# Altium integrated library TMS570LC4357.IntLib: 1 symbol
Pins are listed as number, name and electrical type; pins without a type are passive.

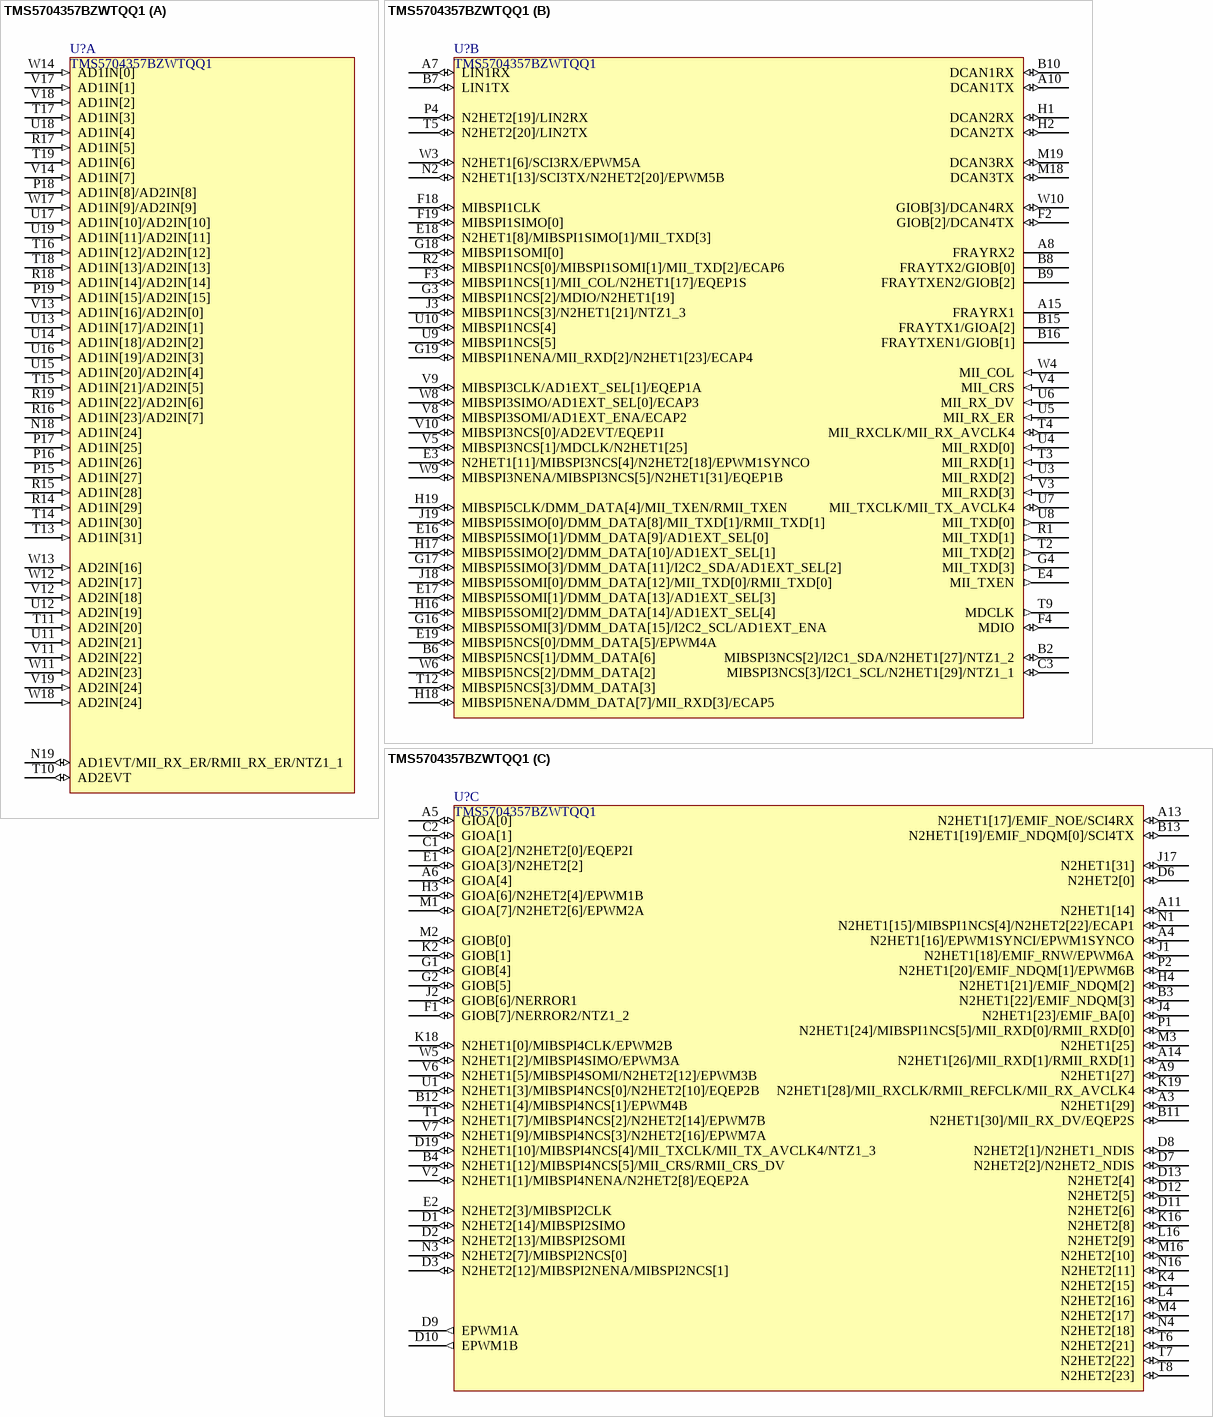
[diagram p0: symbol TMS5704357BZWTQQ1]

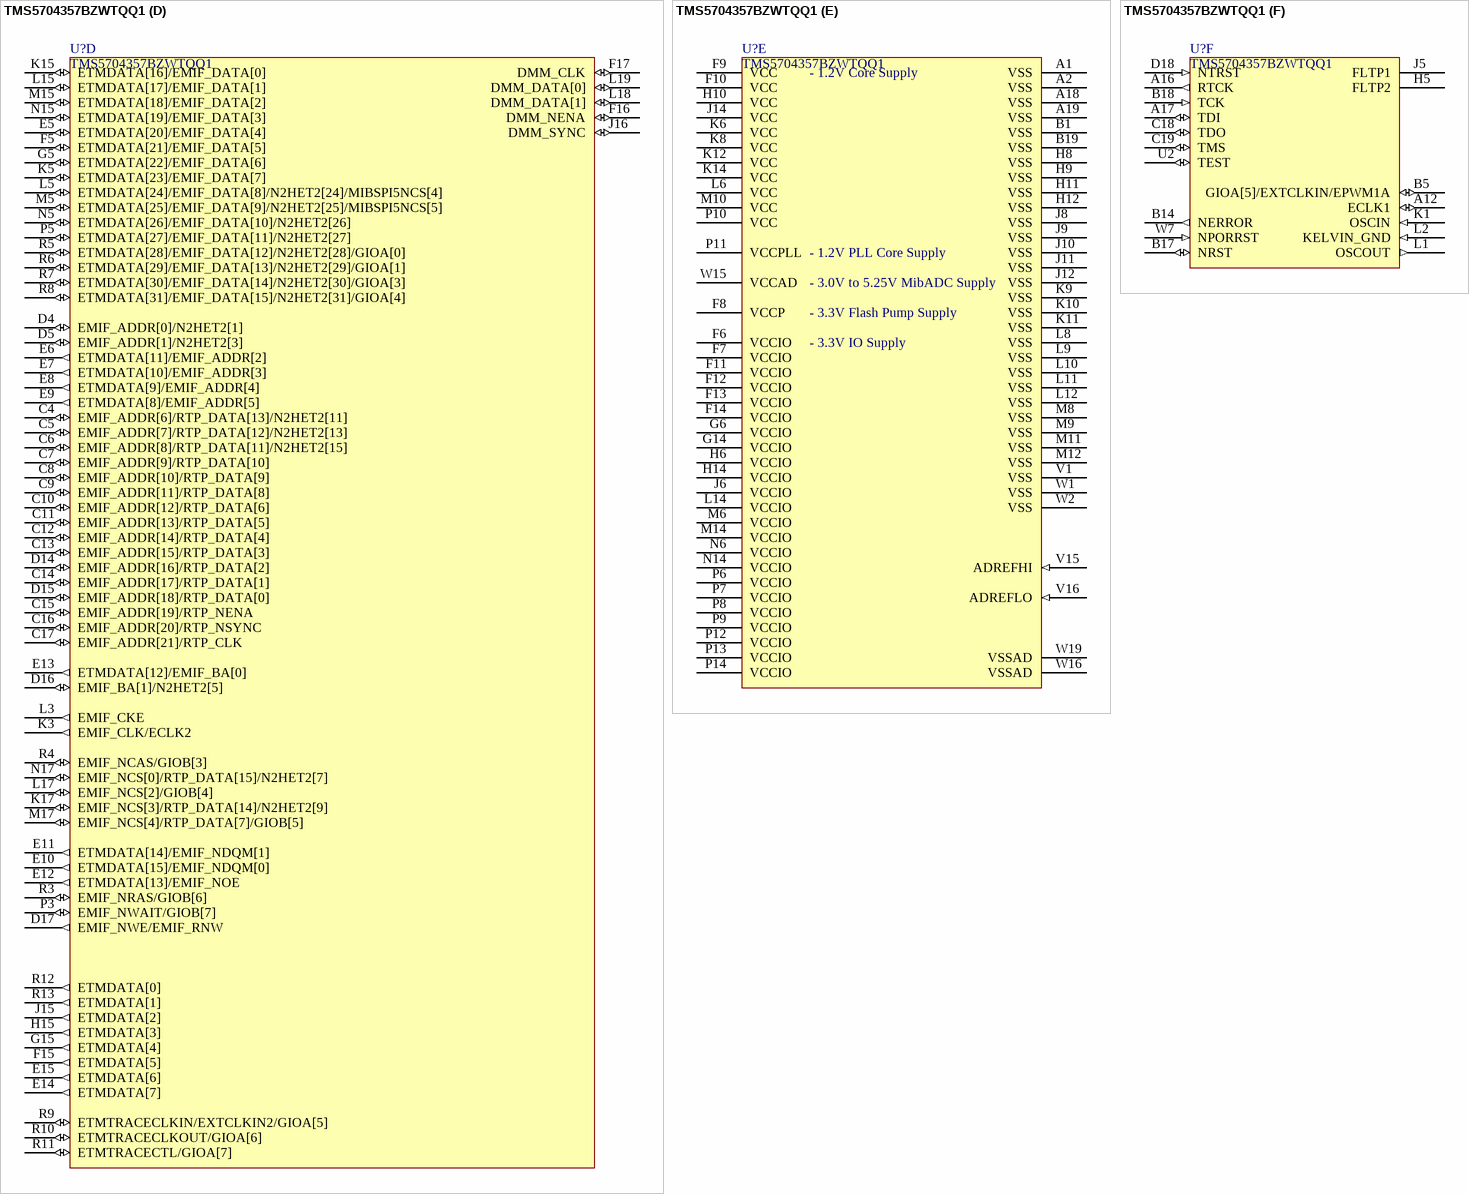
[diagram p1: symbol TMS5704357BZWTQQ1]

## TMS5704357BZWTQQ1
designator U?
footprint BGA337C80P19X19_1600X1600X140 (BGA, 337-Leads, Body 16,00x16,00mmx1,40mm, Pitch 0,80mm)
part A pins: N18 AD1IN[24] (in), N19 AD1EVT/MII_RX_ER/RMII_RX_ER/NTZ1_1 (io), P15 AD1IN[27] (in), P16 AD1IN[26] (in), P17 AD1IN[25] (in), P18 AD1IN[8]/AD2IN[8] (in), P19 AD1IN[15]/AD2IN[15] (in), R14 AD1IN[29] (in), R15 AD1IN[28] (in), R16 AD1IN[23]/AD2IN[7] (in), R17 AD1IN[5] (in), R18 AD1IN[14]/AD2IN[14] (in), R19 AD1IN[22]/AD2IN[6] (in), T10 AD2EVT (io), T11 AD2IN[20] (in), T13 AD1IN[31] (in), T14 AD1IN[30] (in), T15 AD1IN[21]/AD2IN[5] (in), T16 AD1IN[12]/AD2IN[12] (in), T17 AD1IN[3] (in), T18 AD1IN[13]/AD2IN[13] (in), T19 AD1IN[6] (in), U11 AD2IN[21] (in), U12 AD2IN[19] (in), U13 AD1IN[17]/AD2IN[1] (in), U14 AD1IN[18]/AD2IN[2] (in), U15 AD1IN[20]/AD2IN[4] (in), U16 AD1IN[19]/AD2IN[3] (in), U17 AD1IN[10]/AD2IN[10] (in), U18 AD1IN[4] (in), U19 AD1IN[11]/AD2IN[11] (in), V11 AD2IN[22] (in), V12 AD2IN[18] (in), V13 AD1IN[16]/AD2IN[0] (in), V14 AD1IN[7] (in), V17 AD1IN[1] (in), V18 AD1IN[2] (in), V19 AD2IN[24] (in), W11 AD2IN[23] (in), W12 AD2IN[17] (in), W13 AD2IN[16] (in), W14 AD1IN[0] (in), W17 AD1IN[9]/AD2IN[9] (in), W18 AD2IN[24] (in)
part B pins: A7 LIN1RX (io), A8 FRAYRX2, A10 DCAN1TX (io), A15 FRAYRX1, B2 MIBSPI3NCS[2]/I2C1_SDA/N2HET1[27]/NTZ1_2 (io), B6 MIBSPI5NCS[1]/DMM_DATA[6] (io), B7 LIN1TX (io), B8 FRAYTX2/GIOB[0], B9 FRAYTXEN2/GIOB[2], B10 DCAN1RX (io), B15 FRAYTX1/GIOA[2], B16 FRAYTXEN1/GIOB[1], C3 MIBSPI3NCS[3]/I2C1_SCL/N2HET1[29]/NTZ1_1 (io), E3 N2HET1[11]/MIBSPI3NCS[4]/N2HET2[18]/EPWM1SYNCO (io), E4 MII_TXEN (out), E16 MIBSPI5SIMO[1]/DMM_DATA[9]/AD1EXT_SEL[0] (io), E17 MIBSPI5SOMI[1]/DMM_DATA[13]/AD1EXT_SEL[3] (io), E18 N2HET1[8]/MIBSPI1SIMO[1]/MII_TXD[3] (io), E19 MIBSPI5NCS[0]/DMM_DATA[5]/EPWM4A (io), F2 GIOB[2]/DCAN4TX (io), F3 MIBSPI1NCS[1]/MII_COL/N2HET1[17]/EQEP1S (io), F4 MDIO (io), F18 MIBSPI1CLK (io), F19 MIBSPI1SIMO[0] (io), G3 MIBSPI1NCS[2]/MDIO/N2HET1[19] (io), G4 MII_TXD[3] (out), G16 MIBSPI5SOMI[3]/DMM_DATA[15]/I2C2_SCL/AD1EXT_ENA (io), G17 MIBSPI5SIMO[3]/DMM_DATA[11]/I2C2_SDA/AD1EXT_SEL[2] (io), G18 MIBSPI1SOMI[0] (io), G19 MIBSPI1NENA/MII_RXD[2]/N2HET1[23]/ECAP4 (io), H1 DCAN2RX (io), H2 DCAN2TX (io), H16 MIBSPI5SOMI[2]/DMM_DATA[14]/AD1EXT_SEL[4] (io), H17 MIBSPI5SIMO[2]/DMM_DATA[10]/AD1EXT_SEL[1] (io), H18 MIBSPI5NENA/DMM_DATA[7]/MII_RXD[3]/ECAP5 (io), H19 MIBSPI5CLK/DMM_DATA[4]/MII_TXEN/RMII_TXEN (io), J3 MIBSPI1NCS[3]/N2HET1[21]/NTZ1_3 (io), J18 MIBSPI5SOMI[0]/DMM_DATA[12]/MII_TXD[0]/RMII_TXD[0] (io), J19 MIBSPI5SIMO[0]/DMM_DATA[8]/MII_TXD[1]/RMII_TXD[1] (io), M18 DCAN3TX (io), M19 DCAN3RX (io), N2 N2HET1[13]/SCI3TX/N2HET2[20]/EPWM5B (io), P4 N2HET2[19]/LIN2RX (io), R1 MII_TXD[1] (out), R2 MIBSPI1NCS[0]/MIBSPI1SOMI[1]/MII_TXD[2]/ECAP6 (io), T2 MII_TXD[2] (out), T3 MII_RXD[1] (in), T4 MII_RXCLK/MII_RX_AVCLK4 (io), T5 N2HET2[20]/LIN2TX (io), T9 MDCLK (out), T12 MIBSPI5NCS[3]/DMM_DATA[3] (io), U3 MII_RXD[2] (in), U4 MII_RXD[0] (in), U5 MII_RX_ER (in), U6 MII_RX_DV (in), U7 MII_TXCLK/MII_TX_AVCLK4 (io), U8 MII_TXD[0] (out), U9 MIBSPI1NCS[5] (io), U10 MIBSPI1NCS[4] (io), V3 MII_RXD[3] (in), V4 MII_CRS (in), V5 MIBSPI3NCS[1]/MDCLK/N2HET1[25] (io), V8 MIBSPI3SOMI/AD1EXT_ENA/ECAP2 (io), V9 MIBSPI3CLK/AD1EXT_SEL[1]/EQEP1A (io), V10 MIBSPI3NCS[0]/AD2EVT/EQEP1I (io), W3 N2HET1[6]/SCI3RX/EPWM5A (io), W4 MII_COL (in), W6 MIBSPI5NCS[2]/DMM_DATA[2] (io), W8 MIBSPI3SIMO/AD1EXT_SEL[0]/ECAP3 (io), W9 MIBSPI3NENA/MIBSPI3NCS[5]/N2HET1[31]/EQEP1B (io), W10 GIOB[3]/DCAN4RX (io)
part C pins: A3 N2HET1[29] (io), A4 N2HET1[16]/EPWM1SYNCI/EPWM1SYNCO (io), A5 GIOA[0] (io), A6 GIOA[4] (io), A9 N2HET1[27] (io), A11 N2HET1[14] (io), A13 N2HET1[17]/EMIF_NOE/SCI4RX (io), A14 N2HET1[26]/MII_RXD[1]/RMII_RXD[1] (io), B3 N2HET1[22]/EMIF_NDQM[3] (io), B4 N2HET1[12]/MIBSPI4NCS[5]/MII_CRS/RMII_CRS_DV (io), B11 N2HET1[30]/MII_RX_DV/EQEP2S (io), B12 N2HET1[4]/MIBSPI4NCS[1]/EPWM4B (io), B13 N2HET1[19]/EMIF_NDQM[0]/SCI4TX (io), C1 GIOA[2]/N2HET2[0]/EQEP2I (io), C2 GIOA[1] (io), D1 N2HET2[14]/MIBSPI2SIMO (io), D2 N2HET2[13]/MIBSPI2SOMI (io), D3 N2HET2[12]/MIBSPI2NENA/MIBSPI2NCS[1] (io), D6 N2HET2[0] (io), D7 N2HET2[2]/N2HET2_NDIS (io), D8 N2HET2[1]/N2HET1_NDIS (io), D9 EPWM1A (out), D10 EPWM1B (out), D11 N2HET2[6] (io), D12 N2HET2[5] (io), D13 N2HET2[4] (io), D19 N2HET1[10]/MIBSPI4NCS[4]/MII_TXCLK/MII_TX_AVCLK4/NTZ1_3 (io), E1 GIOA[3]/N2HET2[2] (io), E2 N2HET2[3]/MIBSPI2CLK (io), F1 GIOB[7]/NERROR2/NTZ1_2 (io), G1 GIOB[4] (io), G2 GIOB[5] (io), H3 GIOA[6]/N2HET2[4]/EPWM1B (io), H4 N2HET1[21]/EMIF_NDQM[2] (io), J1 N2HET1[18]/EMIF_RNW/EPWM6A (io), J2 GIOB[6]/NERROR1 (io), J4 N2HET1[23]/EMIF_BA[0] (io), J17 N2HET1[31] (io), K2 GIOB[1] (io), K4 N2HET2[15] (io), K16 N2HET2[8] (io), K18 N2HET1[0]/MIBSPI4CLK/EPWM2B (io), K19 N2HET1[28]/MII_RXCLK/RMII_REFCLK/MII_RX_AVCLK4 (io), L4 N2HET2[16] (io), L16 N2HET2[9] (io), M1 GIOA[7]/N2HET2[6]/EPWM2A (io), M2 GIOB[0] (io), M3 N2HET1[25] (io), M4 N2HET2[17] (io), M16 N2HET2[10] (io), N1 N2HET1[15]/MIBSPI1NCS[4]/N2HET2[22]/ECAP1 (io), N3 N2HET2[7]/MIBSPI2NCS[0] (io), N4 N2HET2[18] (io), N16 N2HET2[11] (io), P1 N2HET1[24]/MIBSPI1NCS[5]/MII_RXD[0]/RMII_RXD[0] (io), P2 N2HET1[20]/EMIF_NDQM[1]/EPWM6B (io), T1 N2HET1[7]/MIBSPI4NCS[2]/N2HET2[14]/EPWM7B (io), T6 N2HET2[21] (io), T7 N2HET2[22] (io), T8 N2HET2[23] (io), U1 N2HET1[3]/MIBSPI4NCS[0]/N2HET2[10]/EQEP2B (io), V2 N2HET1[1]/MIBSPI4NENA/N2HET2[8]/EQEP2A (io), V6 N2HET1[5]/MIBSPI4SOMI/N2HET2[12]/EPWM3B (io), V7 N2HET1[9]/MIBSPI4NCS[3]/N2HET2[16]/EPWM7A (io), W5 N2HET1[2]/MIBSPI4SIMO/EPWM3A (io)
part D pins: C4 EMIF_ADDR[6]/RTP_DATA[13]/N2HET2[11] (io), C5 EMIF_ADDR[7]/RTP_DATA[12]/N2HET2[13] (io), C6 EMIF_ADDR[8]/RTP_DATA[11]/N2HET2[15] (io), C7 EMIF_ADDR[9]/RTP_DATA[10] (io), C8 EMIF_ADDR[10]/RTP_DATA[9] (io), C9 EMIF_ADDR[11]/RTP_DATA[8] (io), C10 EMIF_ADDR[12]/RTP_DATA[6] (io), C11 EMIF_ADDR[13]/RTP_DATA[5] (io), C12 EMIF_ADDR[14]/RTP_DATA[4] (io), C13 EMIF_ADDR[15]/RTP_DATA[3] (io), C14 EMIF_ADDR[17]/RTP_DATA[1] (io), C15 EMIF_ADDR[19]/RTP_NENA (io), C16 EMIF_ADDR[20]/RTP_NSYNC (io), C17 EMIF_ADDR[21]/RTP_CLK (io), D4 EMIF_ADDR[0]/N2HET2[1] (io), D5 EMIF_ADDR[1]/N2HET2[3] (io), D14 EMIF_ADDR[16]/RTP_DATA[2] (io), D15 EMIF_ADDR[18]/RTP_DATA[0] (io), D16 EMIF_BA[1]/N2HET2[5] (io), D17 EMIF_NWE/EMIF_RNW (out), E5 ETMDATA[20]/EMIF_DATA[4] (io), E6 ETMDATA[11]/EMIF_ADDR[2] (out), E7 ETMDATA[10]/EMIF_ADDR[3] (out), E8 ETMDATA[9]/EMIF_ADDR[4] (out), E9 ETMDATA[8]/EMIF_ADDR[5] (out), E10 ETMDATA[15]/EMIF_NDQM[0] (out), E11 ETMDATA[14]/EMIF_NDQM[1] (out), E12 ETMDATA[13]/EMIF_NOE (out), E13 ETMDATA[12]/EMIF_BA[0] (out), E14 ETMDATA[7] (out), E15 ETMDATA[6] (out), F5 ETMDATA[21]/EMIF_DATA[5] (io), F15 ETMDATA[5] (out), F16 DMM_NENA (io), F17 DMM_CLK (io), G5 ETMDATA[22]/EMIF_DATA[6] (io), G15 ETMDATA[4] (out), H15 ETMDATA[3] (out), J15 ETMDATA[2] (out), J16 DMM_SYNC (io), K3 EMIF_CLK/ECLK2 (out), K5 ETMDATA[23]/EMIF_DATA[7] (io), K15 ETMDATA[16]/EMIF_DATA[0] (io), K17 EMIF_NCS[3]/RTP_DATA[14]/N2HET2[9] (io), L3 EMIF_CKE (out), L5 ETMDATA[24]/EMIF_DATA[8]/N2HET2[24]/MIBSPI5NCS[4] (io), L15 ETMDATA[17]/EMIF_DATA[1] (io), L17 EMIF_NCS[2]/GIOB[4] (io), L18 DMM_DATA[1] (io), L19 DMM_DATA[0] (io), M5 ETMDATA[25]/EMIF_DATA[9]/N2HET2[25]/MIBSPI5NCS[5] (io), M15 ETMDATA[18]/EMIF_DATA[2] (io), M17 EMIF_NCS[4]/RTP_DATA[7]/GIOB[5] (io), N5 ETMDATA[26]/EMIF_DATA[10]/N2HET2[26] (io), N15 ETMDATA[19]/EMIF_DATA[3] (io), N17 EMIF_NCS[0]/RTP_DATA[15]/N2HET2[7] (io), P3 EMIF_NWAIT/GIOB[7] (io), P5 ETMDATA[27]/EMIF_DATA[11]/N2HET2[27] (io), R3 EMIF_NRAS/GIOB[6] (io), R4 EMIF_NCAS/GIOB[3] (io), R5 ETMDATA[28]/EMIF_DATA[12]/N2HET2[28]/GIOA[0] (io), R6 ETMDATA[29]/EMIF_DATA[13]/N2HET2[29]/GIOA[1] (io), R7 ETMDATA[30]/EMIF_DATA[14]/N2HET2[30]/GIOA[3] (io), R8 ETMDATA[31]/EMIF_DATA[15]/N2HET2[31]/GIOA[4] (io), R9 ETMTRACECLKIN/EXTCLKIN2/GIOA[5] (io), R10 ETMTRACECLKOUT/GIOA[6] (io), R11 ETMTRACECTL/GIOA[7] (io), R12 ETMDATA[0] (out), R13 ETMDATA[1] (out)
part E pins: A1 VSS (power), A2 VSS (power), A18 VSS (power), A19 VSS (power), B1 VSS (power), B19 VSS (power), F6 VCCIO (power), F7 VCCIO (power), F8 VCCP (power), F9 VCC (power), F10 VCC (power), F11 VCCIO (power), F12 VCCIO (power), F13 VCCIO (power), F14 VCCIO (power), G6 VCCIO (power), G14 VCCIO (power), H6 VCCIO (power), H8 VSS (power), H9 VSS (power), H10 VCC (power), H11 VSS (power), H12 VSS (power), H14 VCCIO (power), J6 VCCIO (power), J8 VSS (power), J9 VSS (power), J10 VSS (power), J11 VSS (power), J12 VSS (power), J14 VCC (power), K6 VCC (power), K8 VCC (power), K9 VSS (power), K10 VSS (power), K11 VSS (power), K12 VCC (power), K14 VCC (power), L6 VCC (power), L8 VSS (power), L9 VSS (power), L10 VSS (power), L11 VSS (power), L12 VSS (power), L14 VCCIO (power), M6 VCCIO (power), M8 VSS (power), M9 VSS (power), M10 VCC (power), M11 VSS (power), M12 VSS (power), M14 VCCIO (power), N6 VCCIO (power), N14 VCCIO (power), P6 VCCIO (power), P7 VCCIO (power), P8 VCCIO (power), P9 VCCIO (power), P10 VCC (power), P11 VCCPLL (power), P12 VCCIO (power), P13 VCCIO (power), P14 VCCIO (power), V1 VSS (power), V15 ADREFHI (in), V16 ADREFLO (in), W1 VSS (power), W2 VSS (power), W15 VCCAD (power), W16 VSSAD (power), W19 VSSAD (power)
part F pins: A12 ECLK1 (io), A16 RTCK (out), A17 TDI (io), B5 GIOA[5]/EXTCLKIN/EPWM1A (io), B14 NERROR (out), B17 NRST (io), B18 TCK (in), C18 TDO (io), C19 TMS (io), D18 NTRST (in), H5 FLTP2, J5 FLTP1, K1 OSCIN (in), L1 OSCOUT (out), L2 KELVIN_GND (in), U2 TEST (io), W7 NPORRST (in)
part E text: - 1.2V Core Supply; - 1.2V PLL Core Supply; - 3.0V to 5.25V MibADC Supply; - 3.3V Flash Pump Supply; - 3.3V IO Supply